# Altium integrated library Linear Technology Power Management Hot Swap Controllers.IntLib: 992 symbols (part 43 of 93)
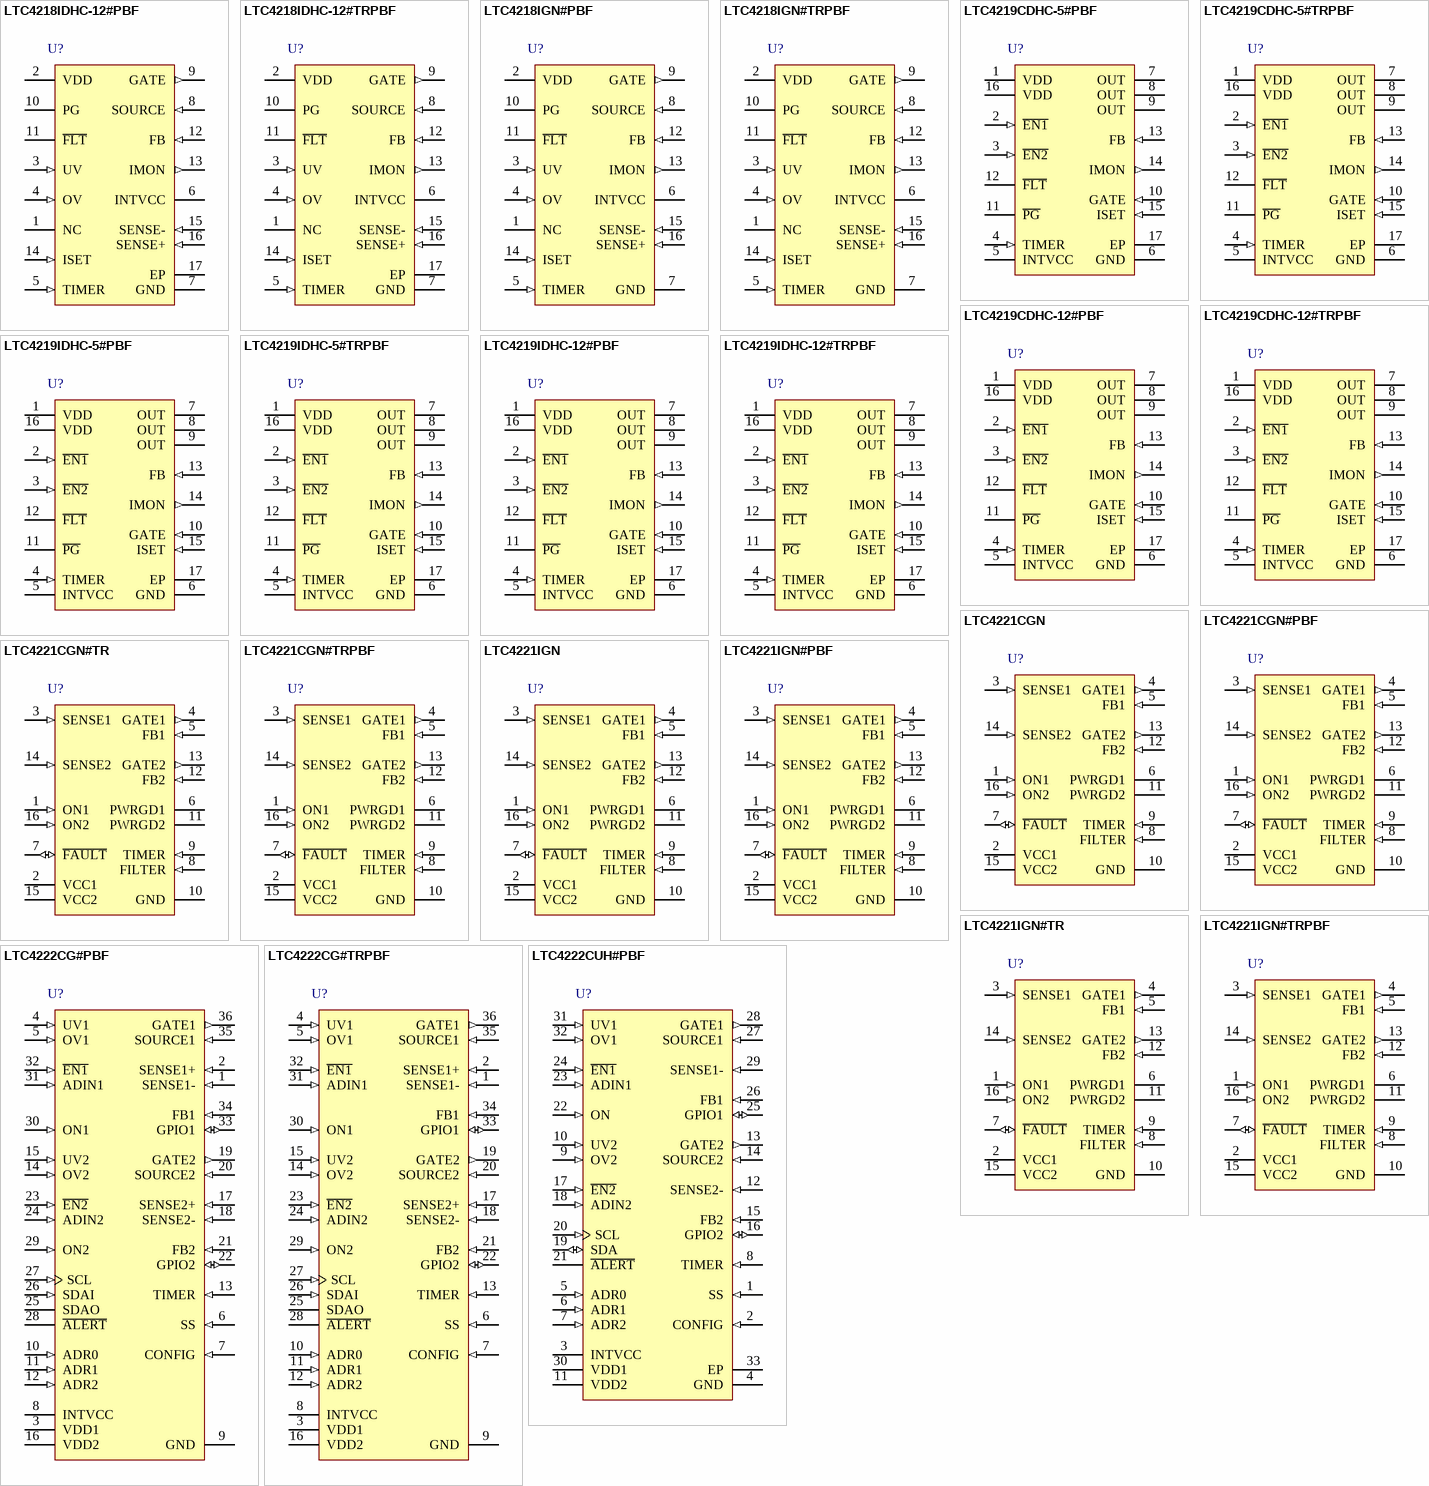
[diagram p79: symbols LTC4218IDHC-12#PBF to LTC4222CUH#PBF]

## LTC4221CGN
designator U?
Dual Hot Swap Controller / Power Sequencer with Dual Speed, Dual Level Fault Protection, 1 to 13.5 V, 2.7 to 13.5 V Vin, 16-pin SOP (GN-16), 0 to 70 degC; Manufacturer: Linear Technology; PartNumber: LTC4221CGN; Active Limiting: yes; Circuit Breaker Accuracy(%): 18; Circuit Breaker Threshold: 25 mV; Circuit Breakers(#): 2; Extended Temp: C, I; Foldback: no; In-Rush Current: Active; Vin Range: (1) 1 to 13.5 V, (2) 2.7 to 13.5 V; DatasheetVersion: Rev. A; PackageVersion: Rev. B, 03/2012; PackageReference: GN-16; PackageDescription: 16-Pin Plastic SSOP, Body 4.9 x 3.9 mm, Pitch 0.635 mm; Supplier 1: Digi-Key; Supplier Part Number 1: LTC4221CGN-ND; Fast Comparator: yes; Fault: yes; Power Good: yes; Reset: no; RoHS: FALSE; Mounting Technology: Surface Mount; ComponentLink1Description: Manufacturer URL; ComponentLink1URL: http://www.linear.com/; ComponentLink2Description: Datasheet; ComponentLink2URL: http://cds.linear.com/docs/en/datasheet/4221fa.pdf; ComponentLink3Description: Package Specification; ComponentLink3URL: http://cds.linear.com/docs/en/packaging/05081641_B_GN16.pdf
footprint LT-GN-16_N (SOP, 16-Leads, Body 5x4mm, Pitch 0.635mm, IPC Medium Density)
footprint LT-GN-16_L (SOP, 16-Leads, Body 5x4mm, Pitch 0.635mm, IPC High Density)
footprint LT-GN-16_M (SOP, 16-Leads, Body 5x4mm, Pitch 0.635mm, IPC Low Density)
pins: 1 ON1 (in) "System/Channel 1 On Input. Both GATE pins are pulled low by internal 100uA pull-downs and the F\A\U\L\T\ latch is reset when VON1 < 0.4V. When 0.425V < VON1 < 0.821V, the F\A\U\L\T\ latch is released from reset. When VON1 > (See Datasheet)", 2 VCC1 (power) "Channel 1 Positive Supply Input. It powers all the internal circuitry. VCC1 can range from 2.7V to 13.5V for normal operation but it must be >=VCC2. An undervoltage lockout circuit disables both channels whenever the voltage (See Datasheet)", 3 SENSE1 (in) "Channel 1 Current Sense Input. A sense resistor RSENSE1 is placed in the supply path between VCC1 and SENSE1 to sense channel 1 load current. If VRSENSE1 exceeds 100mV for more than 1us or 25mV for an adjustable time (set by (See Datasheet)", 4 GATE1 (out) "Channel 1 Gate Drive. This pin is the high side gate drive of an external N-channel MOSFET. When VON1 < 0.821V, GATE1 is held low by a 100uA current source. When VON1 > 0.851V, an initial timing cycle is followed by a (See Datasheet)", 5 FB1 (in) "VOUT1 Feedback Input. FB1 monitors the channel 1 output voltage with an external resistive divider. When VFB1 < 0.617V, the PWRGD1 pin is pulled low. When VFB1 > 0.822V, overvoltage is detected, the F\A\U\L\T\ latch is set (See Datasheet)", 6 PWRGD1 (oc) "Channel 1 Power Good Output. PWRGD1 is pulled low when VFB1 < 0.617V, during the initial timing cycle or when the chip is in UVLO. An external pull-up is required to generate a logic high at the open-drain PWRGD1 pin.", 7 ~{FAULT} (io) "F\A\U\L\T\ Status Input/Output. F\A\U\L\T\ is a bidirectional pin. As an input, pulsing VF\A\U\L\T\ < 0.816V will set the F\A\U\L\T\ latch and bring the LTC4221 into the F\A\U\L\T\ state. As an output, F\A\U\L\T\ is pulled (See Datasheet)", 8 FILTER (in) "Overcurrent F\A\U\L\T\ Timing Filter. The FILTER pin requires an external capacitor to ground to adjust the response time of the two slow comparators. The FILTER pin can be left unconnected for a deF\A\U\L\T\ slow comparator (See Datasheet)", 9 TIMER (in) "Analog System Timer. The TIMER pin requires an external capacitor to ground to generate timing delay cycles during start-up. The LTC4221's initial and start-up timing cycles are controlled by CTIMER and the interna(See Datasheet)", 10 GND (power) "Ground. Connect to a ground plane for optimum performance.", 11 PWRGD2 (oc) "Channel 2 Power Good Output. Similar functionality as PWRGD1. Controlled by FB2.", 12 FB2 (in) "VOUT2 Feedback Input. Similar functionality as FB1. Monitors channel 2 output voltage, controls PWRGD2 output and channel 2 start-up current limit.", 13 GATE2 (out) "Channel 2 Gate Drive. Similar functionality as GATE1. Controls the gate drive of the channel 2 external N-channel MOSFET. ON2 controls GATE2 in the same manner as ON1 controls GATE1. VON1 < 0.4V overrides conditions at ON2 (See Datasheet)", 14 SENSE2 (in) "Channel 2 Current Sense Input. Similar functionality as SENSE1. Monitors channel 2 load current through RSENSE2 placed in the supply path between VCC2 and SENSE2. To disable the current limit and circuit breaker function for (See Datasheet)", 15 VCC2 (power) "Channel 2 Positive Supply Input. VCC2 can range from 1V to 13.5V for normal operation but it must be =<VCC1. An undervoltage lockout circuit disables both channels whenever the voltage at VCC2 is less than 0.8V", 16 ON2 (in) "Channel 2 On Input. GATE2 is pulled to ground by a 100uA current source when VON2 < 0.821V. When VON2 > 0.851V, GATE2 ramps up after an initial timing cycle."

## LTC4221CGN#PBF
designator U?
Dual Hot Swap Controller / Power Sequencer with Dual Speed, Dual Level Fault Protection, 1 to 13.5 V, 2.7 to 13.5 V Vin, 16-pin SOP (GN-16), 0 to 70 degC, Pb-Free; Manufacturer: Linear Technology; PartNumber: LTC4221CGN#PBF; Active Limiting: yes; Circuit Breaker Accuracy(%): 18; Circuit Breaker Threshold: 25 mV; Circuit Breakers(#): 2; Extended Temp: C, I; Foldback: no; In-Rush Current: Active; Vin Range: (1) 1 to 13.5 V, (2) 2.7 to 13.5 V; DatasheetVersion: Rev. A; PackageVersion: Rev. B, 03/2012; PackageReference: GN-16; PackageDescription: 16-Pin Plastic SSOP, Body 4.9 x 3.9 mm, Pitch 0.635 mm; Supplier 1: Digi-Key; Supplier Part Number 1: LTC4221CGN#PBF-ND; Fast Comparator: yes; Fault: yes; Power Good: yes; Reset: no; RoHS: TRUE; Mounting Technology: Surface Mount; ComponentLink1Description: Manufacturer URL; ComponentLink1URL: http://www.linear.com/; ComponentLink2Description: Datasheet; ComponentLink2URL: http://cds.linear.com/docs/en/datasheet/4221fa.pdf; ComponentLink3Description: Package Specification; ComponentLink3URL: http://cds.linear.com/docs/en/packaging/05081641_B_GN16.pdf
footprint LT-GN-16_N (SOP, 16-Leads, Body 5x4mm, Pitch 0.635mm, IPC Medium Density)
footprint LT-GN-16_L (SOP, 16-Leads, Body 5x4mm, Pitch 0.635mm, IPC High Density)
footprint LT-GN-16_M (SOP, 16-Leads, Body 5x4mm, Pitch 0.635mm, IPC Low Density)
pins: 1 ON1 (in) "System/Channel 1 On Input. Both GATE pins are pulled low by internal 100uA pull-downs and the F\A\U\L\T\ latch is reset when VON1 < 0.4V. When 0.425V < VON1 < 0.821V, the F\A\U\L\T\ latch is released from reset. When VON1 > (See Datasheet)", 2 VCC1 (power) "Channel 1 Positive Supply Input. It powers all the internal circuitry. VCC1 can range from 2.7V to 13.5V for normal operation but it must be >=VCC2. An undervoltage lockout circuit disables both channels whenever the voltage (See Datasheet)", 3 SENSE1 (in) "Channel 1 Current Sense Input. A sense resistor RSENSE1 is placed in the supply path between VCC1 and SENSE1 to sense channel 1 load current. If VRSENSE1 exceeds 100mV for more than 1us or 25mV for an adjustable time (set by (See Datasheet)", 4 GATE1 (out) "Channel 1 Gate Drive. This pin is the high side gate drive of an external N-channel MOSFET. When VON1 < 0.821V, GATE1 is held low by a 100uA current source. When VON1 > 0.851V, an initial timing cycle is followed by a (See Datasheet)", 5 FB1 (in) "VOUT1 Feedback Input. FB1 monitors the channel 1 output voltage with an external resistive divider. When VFB1 < 0.617V, the PWRGD1 pin is pulled low. When VFB1 > 0.822V, overvoltage is detected, the F\A\U\L\T\ latch is set (See Datasheet)", 6 PWRGD1 (oc) "Channel 1 Power Good Output. PWRGD1 is pulled low when VFB1 < 0.617V, during the initial timing cycle or when the chip is in UVLO. An external pull-up is required to generate a logic high at the open-drain PWRGD1 pin.", 7 ~{FAULT} (io) "F\A\U\L\T\ Status Input/Output. F\A\U\L\T\ is a bidirectional pin. As an input, pulsing VF\A\U\L\T\ < 0.816V will set the F\A\U\L\T\ latch and bring the LTC4221 into the F\A\U\L\T\ state. As an output, F\A\U\L\T\ is pulled (See Datasheet)", 8 FILTER (in) "Overcurrent F\A\U\L\T\ Timing Filter. The FILTER pin requires an external capacitor to ground to adjust the response time of the two slow comparators. The FILTER pin can be left unconnected for a deF\A\U\L\T\ slow comparator (See Datasheet)", 9 TIMER (in) "Analog System Timer. The TIMER pin requires an external capacitor to ground to generate timing delay cycles during start-up. The LTC4221's initial and start-up timing cycles are controlled by CTIMER and the interna(See Datasheet)", 10 GND (power) "Ground. Connect to a ground plane for optimum performance.", 11 PWRGD2 (oc) "Channel 2 Power Good Output. Similar functionality as PWRGD1. Controlled by FB2.", 12 FB2 (in) "VOUT2 Feedback Input. Similar functionality as FB1. Monitors channel 2 output voltage, controls PWRGD2 output and channel 2 start-up current limit.", 13 GATE2 (out) "Channel 2 Gate Drive. Similar functionality as GATE1. Controls the gate drive of the channel 2 external N-channel MOSFET. ON2 controls GATE2 in the same manner as ON1 controls GATE1. VON1 < 0.4V overrides conditions at ON2 (See Datasheet)", 14 SENSE2 (in) "Channel 2 Current Sense Input. Similar functionality as SENSE1. Monitors channel 2 load current through RSENSE2 placed in the supply path between VCC2 and SENSE2. To disable the current limit and circuit breaker function for (See Datasheet)", 15 VCC2 (power) "Channel 2 Positive Supply Input. VCC2 can range from 1V to 13.5V for normal operation but it must be =<VCC1. An undervoltage lockout circuit disables both channels whenever the voltage at VCC2 is less than 0.8V", 16 ON2 (in) "Channel 2 On Input. GATE2 is pulled to ground by a 100uA current source when VON2 < 0.821V. When VON2 > 0.851V, GATE2 ramps up after an initial timing cycle."

## LTC4221CGN#TR
designator U?
Dual Hot Swap Controller / Power Sequencer with Dual Speed, Dual Level Fault Protection, 1 to 13.5 V, 2.7 to 13.5 V Vin, 16-pin SOP (GN-16), 0 to 70 degC, Tape and Reel; Manufacturer: Linear Technology; PartNumber: LTC4221CGN#TR; Active Limiting: yes; Circuit Breaker Accuracy(%): 18; Circuit Breaker Threshold: 25 mV; Circuit Breakers(#): 2; Extended Temp: C, I; Foldback: no; In-Rush Current: Active; Vin Range: (1) 1 to 13.5 V, (2) 2.7 to 13.5 V; DatasheetVersion: Rev. A; PackageVersion: Rev. B, 03/2012; PackageReference: GN-16; PackageDescription: 16-Pin Plastic SSOP, Body 4.9 x 3.9 mm, Pitch 0.635 mm; Supplier 1: Digi-Key; Supplier Part Number 1: LTC4221CGN#TR-ND; Fast Comparator: yes; Fault: yes; Packing: Tape and Reel; Power Good: yes; Reset: no; RoHS: FALSE; Mounting Technology: Surface Mount; ComponentLink1Description: Manufacturer URL; ComponentLink1URL: http://www.linear.com/; ComponentLink2Description: Datasheet; ComponentLink2URL: http://cds.linear.com/docs/en/datasheet/4221fa.pdf; ComponentLink3Description: Package Specification; ComponentLink3URL: http://cds.linear.com/docs/en/packaging/05081641_B_GN16.pdf
footprint LT-GN-16_N (SOP, 16-Leads, Body 5x4mm, Pitch 0.635mm, IPC Medium Density)
footprint LT-GN-16_L (SOP, 16-Leads, Body 5x4mm, Pitch 0.635mm, IPC High Density)
footprint LT-GN-16_M (SOP, 16-Leads, Body 5x4mm, Pitch 0.635mm, IPC Low Density)
pins: 1 ON1 (in) "System/Channel 1 On Input. Both GATE pins are pulled low by internal 100uA pull-downs and the F\A\U\L\T\ latch is reset when VON1 < 0.4V. When 0.425V < VON1 < 0.821V, the F\A\U\L\T\ latch is released from reset. When VON1 > (See Datasheet)", 2 VCC1 (power) "Channel 1 Positive Supply Input. It powers all the internal circuitry. VCC1 can range from 2.7V to 13.5V for normal operation but it must be >=VCC2. An undervoltage lockout circuit disables both channels whenever the voltage (See Datasheet)", 3 SENSE1 (in) "Channel 1 Current Sense Input. A sense resistor RSENSE1 is placed in the supply path between VCC1 and SENSE1 to sense channel 1 load current. If VRSENSE1 exceeds 100mV for more than 1us or 25mV for an adjustable time (set by (See Datasheet)", 4 GATE1 (out) "Channel 1 Gate Drive. This pin is the high side gate drive of an external N-channel MOSFET. When VON1 < 0.821V, GATE1 is held low by a 100uA current source. When VON1 > 0.851V, an initial timing cycle is followed by a (See Datasheet)", 5 FB1 (in) "VOUT1 Feedback Input. FB1 monitors the channel 1 output voltage with an external resistive divider. When VFB1 < 0.617V, the PWRGD1 pin is pulled low. When VFB1 > 0.822V, overvoltage is detected, the F\A\U\L\T\ latch is set (See Datasheet)", 6 PWRGD1 (oc) "Channel 1 Power Good Output. PWRGD1 is pulled low when VFB1 < 0.617V, during the initial timing cycle or when the chip is in UVLO. An external pull-up is required to generate a logic high at the open-drain PWRGD1 pin.", 7 ~{FAULT} (io) "F\A\U\L\T\ Status Input/Output. F\A\U\L\T\ is a bidirectional pin. As an input, pulsing VF\A\U\L\T\ < 0.816V will set the F\A\U\L\T\ latch and bring the LTC4221 into the F\A\U\L\T\ state. As an output, F\A\U\L\T\ is pulled (See Datasheet)", 8 FILTER (in) "Overcurrent F\A\U\L\T\ Timing Filter. The FILTER pin requires an external capacitor to ground to adjust the response time of the two slow comparators. The FILTER pin can be left unconnected for a deF\A\U\L\T\ slow comparator (See Datasheet)", 9 TIMER (in) "Analog System Timer. The TIMER pin requires an external capacitor to ground to generate timing delay cycles during start-up. The LTC4221's initial and start-up timing cycles are controlled by CTIMER and the interna(See Datasheet)", 10 GND (power) "Ground. Connect to a ground plane for optimum performance.", 11 PWRGD2 (oc) "Channel 2 Power Good Output. Similar functionality as PWRGD1. Controlled by FB2.", 12 FB2 (in) "VOUT2 Feedback Input. Similar functionality as FB1. Monitors channel 2 output voltage, controls PWRGD2 output and channel 2 start-up current limit.", 13 GATE2 (out) "Channel 2 Gate Drive. Similar functionality as GATE1. Controls the gate drive of the channel 2 external N-channel MOSFET. ON2 controls GATE2 in the same manner as ON1 controls GATE1. VON1 < 0.4V overrides conditions at ON2 (See Datasheet)", 14 SENSE2 (in) "Channel 2 Current Sense Input. Similar functionality as SENSE1. Monitors channel 2 load current through RSENSE2 placed in the supply path between VCC2 and SENSE2. To disable the current limit and circuit breaker function for (See Datasheet)", 15 VCC2 (power) "Channel 2 Positive Supply Input. VCC2 can range from 1V to 13.5V for normal operation but it must be =<VCC1. An undervoltage lockout circuit disables both channels whenever the voltage at VCC2 is less than 0.8V", 16 ON2 (in) "Channel 2 On Input. GATE2 is pulled to ground by a 100uA current source when VON2 < 0.821V. When VON2 > 0.851V, GATE2 ramps up after an initial timing cycle."

## LTC4221CGN#TRPBF
designator U?
Dual Hot Swap Controller / Power Sequencer with Dual Speed, Dual Level Fault Protection, 1 to 13.5 V, 2.7 to 13.5 V Vin, 16-pin SOP (GN-16), 0 to 70 degC, Pb-Free, Tape and Reel; Manufacturer: Linear Technology; PartNumber: LTC4221CGN#TRPBF; Active Limiting: yes; Circuit Breaker Accuracy(%): 18; Circuit Breaker Threshold: 25 mV; Circuit Breakers(#): 2; Extended Temp: C, I; Foldback: no; In-Rush Current: Active; Vin Range: (1) 1 to 13.5 V, (2) 2.7 to 13.5 V; DatasheetVersion: Rev. A; PackageVersion: Rev. B, 03/2012; PackageReference: GN-16; PackageDescription: 16-Pin Plastic SSOP, Body 4.9 x 3.9 mm, Pitch 0.635 mm; Supplier 1: Digi-Key; Supplier Part Number 1: LTC4221CGN#TRPBF-ND; Fast Comparator: yes; Fault: yes; Packing: Tape and Reel; Power Good: yes; Reset: no; RoHS: TRUE; Mounting Technology: Surface Mount; ComponentLink1Description: Manufacturer URL; ComponentLink1URL: http://www.linear.com/; ComponentLink2Description: Datasheet; ComponentLink2URL: http://cds.linear.com/docs/en/datasheet/4221fa.pdf; ComponentLink3Description: Package Specification; ComponentLink3URL: http://cds.linear.com/docs/en/packaging/05081641_B_GN16.pdf
footprint LT-GN-16_N (SOP, 16-Leads, Body 5x4mm, Pitch 0.635mm, IPC Medium Density)
footprint LT-GN-16_L (SOP, 16-Leads, Body 5x4mm, Pitch 0.635mm, IPC High Density)
footprint LT-GN-16_M (SOP, 16-Leads, Body 5x4mm, Pitch 0.635mm, IPC Low Density)
pins: 1 ON1 (in) "System/Channel 1 On Input. Both GATE pins are pulled low by internal 100uA pull-downs and the F\A\U\L\T\ latch is reset when VON1 < 0.4V. When 0.425V < VON1 < 0.821V, the F\A\U\L\T\ latch is released from reset. When VON1 > (See Datasheet)", 2 VCC1 (power) "Channel 1 Positive Supply Input. It powers all the internal circuitry. VCC1 can range from 2.7V to 13.5V for normal operation but it must be >=VCC2. An undervoltage lockout circuit disables both channels whenever the voltage (See Datasheet)", 3 SENSE1 (in) "Channel 1 Current Sense Input. A sense resistor RSENSE1 is placed in the supply path between VCC1 and SENSE1 to sense channel 1 load current. If VRSENSE1 exceeds 100mV for more than 1us or 25mV for an adjustable time (set by (See Datasheet)", 4 GATE1 (out) "Channel 1 Gate Drive. This pin is the high side gate drive of an external N-channel MOSFET. When VON1 < 0.821V, GATE1 is held low by a 100uA current source. When VON1 > 0.851V, an initial timing cycle is followed by a (See Datasheet)", 5 FB1 (in) "VOUT1 Feedback Input. FB1 monitors the channel 1 output voltage with an external resistive divider. When VFB1 < 0.617V, the PWRGD1 pin is pulled low. When VFB1 > 0.822V, overvoltage is detected, the F\A\U\L\T\ latch is set (See Datasheet)", 6 PWRGD1 (oc) "Channel 1 Power Good Output. PWRGD1 is pulled low when VFB1 < 0.617V, during the initial timing cycle or when the chip is in UVLO. An external pull-up is required to generate a logic high at the open-drain PWRGD1 pin.", 7 ~{FAULT} (io) "F\A\U\L\T\ Status Input/Output. F\A\U\L\T\ is a bidirectional pin. As an input, pulsing VF\A\U\L\T\ < 0.816V will set the F\A\U\L\T\ latch and bring the LTC4221 into the F\A\U\L\T\ state. As an output, F\A\U\L\T\ is pulled (See Datasheet)", 8 FILTER (in) "Overcurrent F\A\U\L\T\ Timing Filter. The FILTER pin requires an external capacitor to ground to adjust the response time of the two slow comparators. The FILTER pin can be left unconnected for a deF\A\U\L\T\ slow comparator (See Datasheet)", 9 TIMER (in) "Analog System Timer. The TIMER pin requires an external capacitor to ground to generate timing delay cycles during start-up. The LTC4221's initial and start-up timing cycles are controlled by CTIMER and the interna(See Datasheet)", 10 GND (power) "Ground. Connect to a ground plane for optimum performance.", 11 PWRGD2 (oc) "Channel 2 Power Good Output. Similar functionality as PWRGD1. Controlled by FB2.", 12 FB2 (in) "VOUT2 Feedback Input. Similar functionality as FB1. Monitors channel 2 output voltage, controls PWRGD2 output and channel 2 start-up current limit.", 13 GATE2 (out) "Channel 2 Gate Drive. Similar functionality as GATE1. Controls the gate drive of the channel 2 external N-channel MOSFET. ON2 controls GATE2 in the same manner as ON1 controls GATE1. VON1 < 0.4V overrides conditions at ON2 (See Datasheet)", 14 SENSE2 (in) "Channel 2 Current Sense Input. Similar functionality as SENSE1. Monitors channel 2 load current through RSENSE2 placed in the supply path between VCC2 and SENSE2. To disable the current limit and circuit breaker function for (See Datasheet)", 15 VCC2 (power) "Channel 2 Positive Supply Input. VCC2 can range from 1V to 13.5V for normal operation but it must be =<VCC1. An undervoltage lockout circuit disables both channels whenever the voltage at VCC2 is less than 0.8V", 16 ON2 (in) "Channel 2 On Input. GATE2 is pulled to ground by a 100uA current source when VON2 < 0.821V. When VON2 > 0.851V, GATE2 ramps up after an initial timing cycle."

## LTC4221IGN
designator U?
Dual Hot Swap Controller / Power Sequencer with Dual Speed, Dual Level Fault Protection, 1 to 13.5 V, 2.7 to 13.5 V Vin, 16-pin SOP (GN-16), -40 to 85 degC; Manufacturer: Linear Technology; PartNumber: LTC4221IGN; Active Limiting: yes; Circuit Breaker Accuracy(%): 18; Circuit Breaker Threshold: 25 mV; Circuit Breakers(#): 2; Extended Temp: C, I; Foldback: no; In-Rush Current: Active; Vin Range: (1) 1 to 13.5 V, (2) 2.7 to 13.5 V; DatasheetVersion: Rev. A; PackageVersion: Rev. B, 03/2012; PackageReference: GN-16; PackageDescription: 16-Pin Plastic SSOP, Body 4.9 x 3.9 mm, Pitch 0.635 mm; Supplier 1: Digi-Key; Supplier Part Number 1: LTC4221IGN-ND; Fast Comparator: yes; Fault: yes; Power Good: yes; Reset: no; RoHS: FALSE; Mounting Technology: Surface Mount; ComponentLink1Description: Manufacturer URL; ComponentLink1URL: http://www.linear.com/; ComponentLink2Description: Datasheet; ComponentLink2URL: http://cds.linear.com/docs/en/datasheet/4221fa.pdf; ComponentLink3Description: Package Specification; ComponentLink3URL: http://cds.linear.com/docs/en/packaging/05081641_B_GN16.pdf
footprint LT-GN-16_N (SOP, 16-Leads, Body 5x4mm, Pitch 0.635mm, IPC Medium Density)
footprint LT-GN-16_L (SOP, 16-Leads, Body 5x4mm, Pitch 0.635mm, IPC High Density)
footprint LT-GN-16_M (SOP, 16-Leads, Body 5x4mm, Pitch 0.635mm, IPC Low Density)
pins: 1 ON1 (in) "System/Channel 1 On Input. Both GATE pins are pulled low by internal 100uA pull-downs and the F\A\U\L\T\ latch is reset when VON1 < 0.4V. When 0.425V < VON1 < 0.821V, the F\A\U\L\T\ latch is released from reset. When VON1 > (See Datasheet)", 2 VCC1 (power) "Channel 1 Positive Supply Input. It powers all the internal circuitry. VCC1 can range from 2.7V to 13.5V for normal operation but it must be >=VCC2. An undervoltage lockout circuit disables both channels whenever the voltage (See Datasheet)", 3 SENSE1 (in) "Channel 1 Current Sense Input. A sense resistor RSENSE1 is placed in the supply path between VCC1 and SENSE1 to sense channel 1 load current. If VRSENSE1 exceeds 100mV for more than 1us or 25mV for an adjustable time (set by (See Datasheet)", 4 GATE1 (out) "Channel 1 Gate Drive. This pin is the high side gate drive of an external N-channel MOSFET. When VON1 < 0.821V, GATE1 is held low by a 100uA current source. When VON1 > 0.851V, an initial timing cycle is followed by a (See Datasheet)", 5 FB1 (in) "VOUT1 Feedback Input. FB1 monitors the channel 1 output voltage with an external resistive divider. When VFB1 < 0.617V, the PWRGD1 pin is pulled low. When VFB1 > 0.822V, overvoltage is detected, the F\A\U\L\T\ latch is set (See Datasheet)", 6 PWRGD1 (oc) "Channel 1 Power Good Output. PWRGD1 is pulled low when VFB1 < 0.617V, during the initial timing cycle or when the chip is in UVLO. An external pull-up is required to generate a logic high at the open-drain PWRGD1 pin.", 7 ~{FAULT} (io) "F\A\U\L\T\ Status Input/Output. F\A\U\L\T\ is a bidirectional pin. As an input, pulsing VF\A\U\L\T\ < 0.816V will set the F\A\U\L\T\ latch and bring the LTC4221 into the F\A\U\L\T\ state. As an output, F\A\U\L\T\ is pulled (See Datasheet)", 8 FILTER (in) "Overcurrent F\A\U\L\T\ Timing Filter. The FILTER pin requires an external capacitor to ground to adjust the response time of the two slow comparators. The FILTER pin can be left unconnected for a deF\A\U\L\T\ slow comparator (See Datasheet)", 9 TIMER (in) "Analog System Timer. The TIMER pin requires an external capacitor to ground to generate timing delay cycles during start-up. The LTC4221's initial and start-up timing cycles are controlled by CTIMER and the interna(See Datasheet)", 10 GND (power) "Ground. Connect to a ground plane for optimum performance.", 11 PWRGD2 (oc) "Channel 2 Power Good Output. Similar functionality as PWRGD1. Controlled by FB2.", 12 FB2 (in) "VOUT2 Feedback Input. Similar functionality as FB1. Monitors channel 2 output voltage, controls PWRGD2 output and channel 2 start-up current limit.", 13 GATE2 (out) "Channel 2 Gate Drive. Similar functionality as GATE1. Controls the gate drive of the channel 2 external N-channel MOSFET. ON2 controls GATE2 in the same manner as ON1 controls GATE1. VON1 < 0.4V overrides conditions at ON2 (See Datasheet)", 14 SENSE2 (in) "Channel 2 Current Sense Input. Similar functionality as SENSE1. Monitors channel 2 load current through RSENSE2 placed in the supply path between VCC2 and SENSE2. To disable the current limit and circuit breaker function for (See Datasheet)", 15 VCC2 (power) "Channel 2 Positive Supply Input. VCC2 can range from 1V to 13.5V for normal operation but it must be =<VCC1. An undervoltage lockout circuit disables both channels whenever the voltage at VCC2 is less than 0.8V", 16 ON2 (in) "Channel 2 On Input. GATE2 is pulled to ground by a 100uA current source when VON2 < 0.821V. When VON2 > 0.851V, GATE2 ramps up after an initial timing cycle."

## LTC4221IGN#PBF
designator U?
Dual Hot Swap Controller / Power Sequencer with Dual Speed, Dual Level Fault Protection, 1 to 13.5 V, 2.7 to 13.5 V Vin, 16-pin SOP (GN-16), -40 to 85 degC, Pb-Free; Manufacturer: Linear Technology; PartNumber: LTC4221IGN#PBF; Active Limiting: yes; Circuit Breaker Accuracy(%): 18; Circuit Breaker Threshold: 25 mV; Circuit Breakers(#): 2; Extended Temp: C, I; Foldback: no; In-Rush Current: Active; Vin Range: (1) 1 to 13.5 V, (2) 2.7 to 13.5 V; DatasheetVersion: Rev. A; PackageVersion: Rev. B, 03/2012; PackageReference: GN-16; PackageDescription: 16-Pin Plastic SSOP, Body 4.9 x 3.9 mm, Pitch 0.635 mm; Supplier 1: Digi-Key; Supplier Part Number 1: LTC4221IGN#PBF-ND; Supplier 2: Newark; Supplier Part Number 2: 56M8860; Fast Comparator: yes; Fault: yes; Power Good: yes; Reset: no; RoHS: TRUE; Mounting Technology: Surface Mount; ComponentLink1Description: Manufacturer URL; ComponentLink1URL: http://www.linear.com/; ComponentLink2Description: Datasheet; ComponentLink2URL: http://cds.linear.com/docs/en/datasheet/4221fa.pdf; ComponentLink3Description: Package Specification; ComponentLink3URL: http://cds.linear.com/docs/en/packaging/05081641_B_GN16.pdf
footprint LT-GN-16_N (SOP, 16-Leads, Body 5x4mm, Pitch 0.635mm, IPC Medium Density)
footprint LT-GN-16_L (SOP, 16-Leads, Body 5x4mm, Pitch 0.635mm, IPC High Density)
footprint LT-GN-16_M (SOP, 16-Leads, Body 5x4mm, Pitch 0.635mm, IPC Low Density)
pins: 1 ON1 (in) "System/Channel 1 On Input. Both GATE pins are pulled low by internal 100uA pull-downs and the F\A\U\L\T\ latch is reset when VON1 < 0.4V. When 0.425V < VON1 < 0.821V, the F\A\U\L\T\ latch is released from reset. When VON1 > (See Datasheet)", 2 VCC1 (power) "Channel 1 Positive Supply Input. It powers all the internal circuitry. VCC1 can range from 2.7V to 13.5V for normal operation but it must be >=VCC2. An undervoltage lockout circuit disables both channels whenever the voltage (See Datasheet)", 3 SENSE1 (in) "Channel 1 Current Sense Input. A sense resistor RSENSE1 is placed in the supply path between VCC1 and SENSE1 to sense channel 1 load current. If VRSENSE1 exceeds 100mV for more than 1us or 25mV for an adjustable time (set by (See Datasheet)", 4 GATE1 (out) "Channel 1 Gate Drive. This pin is the high side gate drive of an external N-channel MOSFET. When VON1 < 0.821V, GATE1 is held low by a 100uA current source. When VON1 > 0.851V, an initial timing cycle is followed by a (See Datasheet)", 5 FB1 (in) "VOUT1 Feedback Input. FB1 monitors the channel 1 output voltage with an external resistive divider. When VFB1 < 0.617V, the PWRGD1 pin is pulled low. When VFB1 > 0.822V, overvoltage is detected, the F\A\U\L\T\ latch is set (See Datasheet)", 6 PWRGD1 (oc) "Channel 1 Power Good Output. PWRGD1 is pulled low when VFB1 < 0.617V, during the initial timing cycle or when the chip is in UVLO. An external pull-up is required to generate a logic high at the open-drain PWRGD1 pin.", 7 ~{FAULT} (io) "F\A\U\L\T\ Status Input/Output. F\A\U\L\T\ is a bidirectional pin. As an input, pulsing VF\A\U\L\T\ < 0.816V will set the F\A\U\L\T\ latch and bring the LTC4221 into the F\A\U\L\T\ state. As an output, F\A\U\L\T\ is pulled (See Datasheet)", 8 FILTER (in) "Overcurrent F\A\U\L\T\ Timing Filter. The FILTER pin requires an external capacitor to ground to adjust the response time of the two slow comparators. The FILTER pin can be left unconnected for a deF\A\U\L\T\ slow comparator (See Datasheet)", 9 TIMER (in) "Analog System Timer. The TIMER pin requires an external capacitor to ground to generate timing delay cycles during start-up. The LTC4221's initial and start-up timing cycles are controlled by CTIMER and the interna(See Datasheet)", 10 GND (power) "Ground. Connect to a ground plane for optimum performance.", 11 PWRGD2 (oc) "Channel 2 Power Good Output. Similar functionality as PWRGD1. Controlled by FB2.", 12 FB2 (in) "VOUT2 Feedback Input. Similar functionality as FB1. Monitors channel 2 output voltage, controls PWRGD2 output and channel 2 start-up current limit.", 13 GATE2 (out) "Channel 2 Gate Drive. Similar functionality as GATE1. Controls the gate drive of the channel 2 external N-channel MOSFET. ON2 controls GATE2 in the same manner as ON1 controls GATE1. VON1 < 0.4V overrides conditions at ON2 (See Datasheet)", 14 SENSE2 (in) "Channel 2 Current Sense Input. Similar functionality as SENSE1. Monitors channel 2 load current through RSENSE2 placed in the supply path between VCC2 and SENSE2. To disable the current limit and circuit breaker function for (See Datasheet)", 15 VCC2 (power) "Channel 2 Positive Supply Input. VCC2 can range from 1V to 13.5V for normal operation but it must be =<VCC1. An undervoltage lockout circuit disables both channels whenever the voltage at VCC2 is less than 0.8V", 16 ON2 (in) "Channel 2 On Input. GATE2 is pulled to ground by a 100uA current source when VON2 < 0.821V. When VON2 > 0.851V, GATE2 ramps up after an initial timing cycle."

## LTC4221IGN#TR
designator U?
Dual Hot Swap Controller / Power Sequencer with Dual Speed, Dual Level Fault Protection, 1 to 13.5 V, 2.7 to 13.5 V Vin, 16-pin SOP (GN-16), -40 to 85 degC, Tape and Reel; Manufacturer: Linear Technology; PartNumber: LTC4221IGN#TR; Active Limiting: yes; Circuit Breaker Accuracy(%): 18; Circuit Breaker Threshold: 25 mV; Circuit Breakers(#): 2; Extended Temp: C, I; Foldback: no; In-Rush Current: Active; Vin Range: (1) 1 to 13.5 V, (2) 2.7 to 13.5 V; DatasheetVersion: Rev. A; PackageVersion: Rev. B, 03/2012; PackageReference: GN-16; PackageDescription: 16-Pin Plastic SSOP, Body 4.9 x 3.9 mm, Pitch 0.635 mm; Supplier 1: Digi-Key; Supplier Part Number 1: LTC4221IGN#TR-ND; Fast Comparator: yes; Fault: yes; Packing: Tape and Reel; Power Good: yes; Reset: no; RoHS: FALSE; Mounting Technology: Surface Mount; ComponentLink1Description: Manufacturer URL; ComponentLink1URL: http://www.linear.com/; ComponentLink2Description: Datasheet; ComponentLink2URL: http://cds.linear.com/docs/en/datasheet/4221fa.pdf; ComponentLink3Description: Package Specification; ComponentLink3URL: http://cds.linear.com/docs/en/packaging/05081641_B_GN16.pdf
footprint LT-GN-16_N (SOP, 16-Leads, Body 5x4mm, Pitch 0.635mm, IPC Medium Density)
footprint LT-GN-16_L (SOP, 16-Leads, Body 5x4mm, Pitch 0.635mm, IPC High Density)
footprint LT-GN-16_M (SOP, 16-Leads, Body 5x4mm, Pitch 0.635mm, IPC Low Density)
pins: 1 ON1 (in) "System/Channel 1 On Input. Both GATE pins are pulled low by internal 100uA pull-downs and the F\A\U\L\T\ latch is reset when VON1 < 0.4V. When 0.425V < VON1 < 0.821V, the F\A\U\L\T\ latch is released from reset. When VON1 > (See Datasheet)", 2 VCC1 (power) "Channel 1 Positive Supply Input. It powers all the internal circuitry. VCC1 can range from 2.7V to 13.5V for normal operation but it must be >=VCC2. An undervoltage lockout circuit disables both channels whenever the voltage (See Datasheet)", 3 SENSE1 (in) "Channel 1 Current Sense Input. A sense resistor RSENSE1 is placed in the supply path between VCC1 and SENSE1 to sense channel 1 load current. If VRSENSE1 exceeds 100mV for more than 1us or 25mV for an adjustable time (set by (See Datasheet)", 4 GATE1 (out) "Channel 1 Gate Drive. This pin is the high side gate drive of an external N-channel MOSFET. When VON1 < 0.821V, GATE1 is held low by a 100uA current source. When VON1 > 0.851V, an initial timing cycle is followed by a (See Datasheet)", 5 FB1 (in) "VOUT1 Feedback Input. FB1 monitors the channel 1 output voltage with an external resistive divider. When VFB1 < 0.617V, the PWRGD1 pin is pulled low. When VFB1 > 0.822V, overvoltage is detected, the F\A\U\L\T\ latch is set (See Datasheet)", 6 PWRGD1 (oc) "Channel 1 Power Good Output. PWRGD1 is pulled low when VFB1 < 0.617V, during the initial timing cycle or when the chip is in UVLO. An external pull-up is required to generate a logic high at the open-drain PWRGD1 pin.", 7 ~{FAULT} (io) "F\A\U\L\T\ Status Input/Output. F\A\U\L\T\ is a bidirectional pin. As an input, pulsing VF\A\U\L\T\ < 0.816V will set the F\A\U\L\T\ latch and bring the LTC4221 into the F\A\U\L\T\ state. As an output, F\A\U\L\T\ is pulled (See Datasheet)", 8 FILTER (in) "Overcurrent F\A\U\L\T\ Timing Filter. The FILTER pin requires an external capacitor to ground to adjust the response time of the two slow comparators. The FILTER pin can be left unconnected for a deF\A\U\L\T\ slow comparator (See Datasheet)", 9 TIMER (in) "Analog System Timer. The TIMER pin requires an external capacitor to ground to generate timing delay cycles during start-up. The LTC4221's initial and start-up timing cycles are controlled by CTIMER and the interna(See Datasheet)", 10 GND (power) "Ground. Connect to a ground plane for optimum performance.", 11 PWRGD2 (oc) "Channel 2 Power Good Output. Similar functionality as PWRGD1. Controlled by FB2.", 12 FB2 (in) "VOUT2 Feedback Input. Similar functionality as FB1. Monitors channel 2 output voltage, controls PWRGD2 output and channel 2 start-up current limit.", 13 GATE2 (out) "Channel 2 Gate Drive. Similar functionality as GATE1. Controls the gate drive of the channel 2 external N-channel MOSFET. ON2 controls GATE2 in the same manner as ON1 controls GATE1. VON1 < 0.4V overrides conditions at ON2 (See Datasheet)", 14 SENSE2 (in) "Channel 2 Current Sense Input. Similar functionality as SENSE1. Monitors channel 2 load current through RSENSE2 placed in the supply path between VCC2 and SENSE2. To disable the current limit and circuit breaker function for (See Datasheet)", 15 VCC2 (power) "Channel 2 Positive Supply Input. VCC2 can range from 1V to 13.5V for normal operation but it must be =<VCC1. An undervoltage lockout circuit disables both channels whenever the voltage at VCC2 is less than 0.8V", 16 ON2 (in) "Channel 2 On Input. GATE2 is pulled to ground by a 100uA current source when VON2 < 0.821V. When VON2 > 0.851V, GATE2 ramps up after an initial timing cycle."

## LTC4221IGN#TRPBF
designator U?
Dual Hot Swap Controller / Power Sequencer with Dual Speed, Dual Level Fault Protection, 1 to 13.5 V, 2.7 to 13.5 V Vin, 16-pin SOP (GN-16), -40 to 85 degC, Pb-Free, Tape and Reel; Manufacturer: Linear Technology; PartNumber: LTC4221IGN#TRPBF; Active Limiting: yes; Circuit Breaker Accuracy(%): 18; Circuit Breaker Threshold: 25 mV; Circuit Breakers(#): 2; Extended Temp: C, I; Foldback: no; In-Rush Current: Active; Vin Range: (1) 1 to 13.5 V, (2) 2.7 to 13.5 V; DatasheetVersion: Rev. A; PackageVersion: Rev. B, 03/2012; PackageReference: GN-16; PackageDescription: 16-Pin Plastic SSOP, Body 4.9 x 3.9 mm, Pitch 0.635 mm; Supplier 1: Digi-Key; Supplier Part Number 1: LTC4221IGN#TRPBF-ND; Supplier 2: Newark; Supplier Part Number 2: 56M8862; Fast Comparator: yes; Fault: yes; Packing: Tape and Reel; Power Good: yes; Reset: no; RoHS: TRUE; Mounting Technology: Surface Mount; ComponentLink1Description: Manufacturer URL; ComponentLink1URL: http://www.linear.com/; ComponentLink2Description: Datasheet; ComponentLink2URL: http://cds.linear.com/docs/en/datasheet/4221fa.pdf; ComponentLink3Description: Package Specification; ComponentLink3URL: http://cds.linear.com/docs/en/packaging/05081641_B_GN16.pdf
footprint LT-GN-16_N (SOP, 16-Leads, Body 5x4mm, Pitch 0.635mm, IPC Medium Density)
footprint LT-GN-16_L (SOP, 16-Leads, Body 5x4mm, Pitch 0.635mm, IPC High Density)
footprint LT-GN-16_M (SOP, 16-Leads, Body 5x4mm, Pitch 0.635mm, IPC Low Density)
pins: 1 ON1 (in) "System/Channel 1 On Input. Both GATE pins are pulled low by internal 100uA pull-downs and the F\A\U\L\T\ latch is reset when VON1 < 0.4V. When 0.425V < VON1 < 0.821V, the F\A\U\L\T\ latch is released from reset. When VON1 > (See Datasheet)", 2 VCC1 (power) "Channel 1 Positive Supply Input. It powers all the internal circuitry. VCC1 can range from 2.7V to 13.5V for normal operation but it must be >=VCC2. An undervoltage lockout circuit disables both channels whenever the voltage (See Datasheet)", 3 SENSE1 (in) "Channel 1 Current Sense Input. A sense resistor RSENSE1 is placed in the supply path between VCC1 and SENSE1 to sense channel 1 load current. If VRSENSE1 exceeds 100mV for more than 1us or 25mV for an adjustable time (set by (See Datasheet)", 4 GATE1 (out) "Channel 1 Gate Drive. This pin is the high side gate drive of an external N-channel MOSFET. When VON1 < 0.821V, GATE1 is held low by a 100uA current source. When VON1 > 0.851V, an initial timing cycle is followed by a (See Datasheet)", 5 FB1 (in) "VOUT1 Feedback Input. FB1 monitors the channel 1 output voltage with an external resistive divider. When VFB1 < 0.617V, the PWRGD1 pin is pulled low. When VFB1 > 0.822V, overvoltage is detected, the F\A\U\L\T\ latch is set (See Datasheet)", 6 PWRGD1 (oc) "Channel 1 Power Good Output. PWRGD1 is pulled low when VFB1 < 0.617V, during the initial timing cycle or when the chip is in UVLO. An external pull-up is required to generate a logic high at the open-drain PWRGD1 pin.", 7 ~{FAULT} (io) "F\A\U\L\T\ Status Input/Output. F\A\U\L\T\ is a bidirectional pin. As an input, pulsing VF\A\U\L\T\ < 0.816V will set the F\A\U\L\T\ latch and bring the LTC4221 into the F\A\U\L\T\ state. As an output, F\A\U\L\T\ is pulled (See Datasheet)", 8 FILTER (in) "Overcurrent F\A\U\L\T\ Timing Filter. The FILTER pin requires an external capacitor to ground to adjust the response time of the two slow comparators. The FILTER pin can be left unconnected for a deF\A\U\L\T\ slow comparator (See Datasheet)", 9 TIMER (in) "Analog System Timer. The TIMER pin requires an external capacitor to ground to generate timing delay cycles during start-up. The LTC4221's initial and start-up timing cycles are controlled by CTIMER and the interna(See Datasheet)", 10 GND (power) "Ground. Connect to a ground plane for optimum performance.", 11 PWRGD2 (oc) "Channel 2 Power Good Output. Similar functionality as PWRGD1. Controlled by FB2.", 12 FB2 (in) "VOUT2 Feedback Input. Similar functionality as FB1. Monitors channel 2 output voltage, controls PWRGD2 output and channel 2 start-up current limit.", 13 GATE2 (out) "Channel 2 Gate Drive. Similar functionality as GATE1. Controls the gate drive of the channel 2 external N-channel MOSFET. ON2 controls GATE2 in the same manner as ON1 controls GATE1. VON1 < 0.4V overrides conditions at ON2 (See Datasheet)", 14 SENSE2 (in) "Channel 2 Current Sense Input. Similar functionality as SENSE1. Monitors channel 2 load current through RSENSE2 placed in the supply path between VCC2 and SENSE2. To disable the current limit and circuit breaker function for (See Datasheet)", 15 VCC2 (power) "Channel 2 Positive Supply Input. VCC2 can range from 1V to 13.5V for normal operation but it must be =<VCC1. An undervoltage lockout circuit disables both channels whenever the voltage at VCC2 is less than 0.8V", 16 ON2 (in) "Channel 2 On Input. GATE2 is pulled to ground by a 100uA current source when VON2 < 0.821V. When VON2 > 0.851V, GATE2 ramps up after an initial timing cycle."

## LTC4222CG#PBF
designator U?
Dual Hot Swap Controller with I2C Compatible Monitoring, 2.9 to 29 V Vin, 36-pin SOP (G-36), 0 to 70 degC, Pb-Free; Manufacturer: Linear Technology; PartNumber: LTC4222CG#PBF; Active Limiting: yes; ADC: 10-bit; Circuit Breaker Accuracy(%): 5; Circuit Breaker Threshold: 50 mV; Circuit Breakers(#): 2; Extended Temp: C, I; DatasheetVersion: Rev. B; PackageReference: G-36; PackageDescription: 36-Pin Plastic SSOP, Body 12.8 x 5.3 mm, Pitch 0.65 mm; Supplier 1: Digi-Key; Supplier Part Number 1: LTC4222CG#PBF-ND; Supplier 2: Newark; Supplier Part Number 2: 13P4660; Fast Comparator: yes; Fault: yes; Foldback: yes; Power Good: yes; Reset: yes; RoHS: TRUE; Vin Range: 2.9 to 29 V; Mounting Technology: Surface Mount; ComponentLink1Description: Manufacturer URL; ComponentLink1URL: http://www.linear.com/; ComponentLink2Description: Datasheet; ComponentLink2URL: http://cds.linear.com/docs/en/datasheet/4222fb.pdf; ComponentLink3Description: Package Specification; ComponentLink3URL: http://cds.linear.com/docs/en/packaging/SSOP_36_05-08-1640.pdf
footprint LT-G-36_N (SOP, 36-Leads, Body 13.1x5.6mm, Pitch 0.65mm, IPC Medium Density)
footprint LT-G-36_L (SOP, 36-Leads, Body 13.1x5.6mm, Pitch 0.65mm, IPC High Density)
footprint LT-G-36_M (SOP, 36-Leads, Body 13.1x5.6mm, Pitch 0.65mm, IPC Low Density)
pins: 1 SENSE1- (in) "SENSE1-, SENSE2-: Negative Current Sense Input. Connect this pin to the output of the current sense resistor. The current limit circuit controls the corresponding GATE pin voltage to limit the sense voltage between the (See Datasheet)", 2 SENSE1+ (in) "SENSE1+, SENSE2+: (SSOP Package) Positive Current Sense Input. Connect this pin to the input of the current sense resistor. It must be connected to the same trace as VDDn. Internally tied to VDDn in the QFN package.", 3 VDD1 (power) "VDD1, VDD2: Supply Voltage Input and Positive Current Sense Input. This pin has an undervoltage lockout threshold of 2.43V. In the QFN package this pin is also the positive current sense input.", 4 UV1 (in) "UV1, UV2: Undervoltage Comparator Input. Connect this pin to an external resistive divider from VDD. If the voltage at this pin falls below 1.145V, an undervoltage fault is detected and the GATE turns off. Pulling this pin (See Datasheet)", 5 OV1 (in) "OV1, OV2: Overvoltage Comparator Input. Connect this pin to an external resistive divider from VDD. If the voltage at this pin rises above 1.235V, an overvoltage fault is detected and the GATE turns off. Tie to GND if unused.", 6 SS (in) "SS: Soft-Start Input. Sets the inrush current slew rate at start-up. Connect a 68nF capacitor to provide 5mV/ms as the slew rate for the sense voltage in start-up. This corresponds to 1A/ms with a 5mohm sense resistor. Note (See Datasheet)", 7 CONFIG (in) "CONFIG: Configuration Input. Configures the part to control the two channels together or independently. When CONFIG is tied to GND both channels start up at the same time. A fault, E\N\ or ON turn-off command on either (See Datasheet)", 8 INTVCC (power) "INTVCC: Low Voltage Supply Decoupling Output. Connect a 0.1uF capacitor from this pin to ground.", 9 GND (power) "GND: Device Ground.", 10 ADR0 (in) "ADR0, ADR1, ADR2: Serial Bus Address Inputs. Tying these pins to ground, open, or INTVCC configures one of 27 possible addresses. See Table 1 in Applications Information.", 11 ADR1 (in) "ADR0, ADR1, ADR2: Serial Bus Address Inputs. Tying these pins to ground, open, or INTVCC configures one of 27 possible addresses. See Table 1 in Applications Information.", 12 ADR2 (in) "ADR0, ADR1, ADR2: Serial Bus Address Inputs. Tying these pins to ground, open, or INTVCC configures one of 27 possible addresses. See Table 1 in Applications Information.", 13 TIMER (in) "TIMER: Start-Up Timer Input. Connect a capacitor between this pin and ground to set a 12.3ms/uF duration for start-up, after which an overcurrent fault is logged if the inrush is still current limited. The duration of the (See Datasheet)", 14 OV2 (in) "OV1, OV2: Overvoltage Comparator Input. Connect this pin to an external resistive divider from VDD. If the voltage at this pin rises above 1.235V, an overvoltage fault is detected and the GATE turns off. Tie to GND if unused.", 15 UV2 (in) "UV1, UV2: Undervoltage Comparator Input. Connect this pin to an external resistive divider from VDD. If the voltage at this pin falls below 1.145V, an undervoltage fault is detected and the GATE turns off. Pulling this pin (See Datasheet)", 16 VDD2 (power) "VDD1, VDD2: Supply Voltage Input and Positive Current Sense Input. This pin has an undervoltage lockout threshold of 2.43V. In the QFN package this pin is also the positive current sense input.", 17 SENSE2+ (in) "SENSE1+, SENSE2+: (SSOP Package) Positive Current Sense Input. Connect this pin to the input of the current sense resistor. It must be connected to the same trace as VDDn. Internally tied to VDDn in the QFN package.", 18 SENSE2- (in) "SENSE1-, SENSE2-: Negative Current Sense Input. Connect this pin to the output of the current sense resistor. The current limit circuit controls the corresponding GATE pin voltage to limit the sense voltage between the (See Datasheet)", 19 GATE2 (out) "GATE1, GATE2: Gate Drive for External N-Channel MOSFET. An internal 12uA current source charges the gate of the MOSFET. No compensation capacitor is required on the GATE pin, but a resistor and capacitor network from this (See Datasheet)", 20 SOURCE2 (in) "SOURCE1, SOURCE2: N-Channel MOSFET Source and ADC Input. Connect this pin to the source of the external N-channel MOSFET switch for gate drive return. This pin also serves as the ADC input to monitor output voltage. The pin (See Datasheet)", 21 FB2 (in) "FB1, FB2: Foldback Current Limit and Power-Good Input. A resistive divider from the output is tied to this pin. When the voltage at this pin drops below 1.235V, power is not considered good. The power bad condition may (See Datasheet)", 22 GPIO2 (io) "GPIO1, GPIO2: General Purpose Input/Output. Open-drain logic output or logic input. Defaults to an output set to pull low to indicate power is not good. Configure according to Table 3.", 23 ~{EN2} (in) "E\N\1\, E\N\2\: Enable Input. Ground this pin to indicate a board is present and enable the N-channel MOSFET to turn-on. When this pin is high, the MOSFET is not allowed to turn on. An internal 10uA current source pulls up (See Datasheet)", 24 ADIN2 (in) "ADIN: ADC Input. A voltage between 0 and 1.28V applied to this pin is measured by the on-board ADC. Tie to ground if unused.", 25 SDAO (oc) "SDAO: (SSOP Package) Serial Bus Data Output. Opendrain output for sending data back to the master controller or acknowledging a write operation. Normally tied to SDAI to form the SDA line. An external pull-up resistor or (See Datasheet)", 26 SDAI (in) "SDAI: (SSOP Package) Serial Bus Data Input. A high impedance input for shifting in address, command or data bits. Normally tied to SDAO to form the SDA line. Internally tied to SDAO in QFN package.", 27 SCL (in) "SCL: Serial Bus Clock Input. Data at the SDA pin is shifted in or out on rising edges of SCL. This is a high impedance pin that is generally driven by an open-collector output from a master controller. An external pull-up (See Datasheet)", 28 ~{ALERT} (oc) "A\L\E\R\T\: Fault Alert Output. Open-drain logic output that is pulled to ground when a fault occurs to alert the host controller. A fault alert is enabled by setting the corresponding bit in the A\L\E\R\T\ register as shown (See Datasheet)", 29 ON2 (in) "ON1, ON2: (SSOP Package) On Control Inputs. A rising edge turns on the external N-channel FET and a falling edge turns it off. This pin also configures the state of the FET ON register bit (and hence the external FET) at (See Datasheet)", 30 ON1 (in) "ON1, ON2: (SSOP Package) On Control Inputs. A rising edge turns on the external N-channel FET and a falling edge turns it off. This pin also configures the state of the FET ON register bit (and hence the external FET) at (See Datasheet)", 31 ADIN1 (in) "ADIN: ADC Input. A voltage between 0 and 1.28V applied to this pin is measured by the on-board ADC. Tie to ground if unused.", 32 ~{EN1} (in) "E\N\1\, E\N\2\: Enable Input. Ground this pin to indicate a board is present and enable the N-channel MOSFET to turn-on. When this pin is high, the MOSFET is not allowed to turn on. An internal 10uA current source pulls up (See Datasheet)", 33 GPIO1 (io) "GPIO1, GPIO2: General Purpose Input/Output. Open-drain logic output or logic input. Defaults to an output set to pull low to indicate power is not good. Configure according to Table 3.", 34 FB1 (in) "FB1, FB2: Foldback Current Limit and Power-Good Input. A resistive divider from the output is tied to this pin. When the voltage at this pin drops below 1.235V, power is not considered good. The power bad condition may (See Datasheet)", 35 SOURCE1 (in) "SOURCE1, SOURCE2: N-Channel MOSFET Source and ADC Input. Connect this pin to the source of the external N-channel MOSFET switch for gate drive return. This pin also serves as the ADC input to monitor output voltage. The pin (See Datasheet)", 36 GATE1 (out) "GATE1, GATE2: Gate Drive for External N-Channel MOSFET. An internal 12uA current source charges the gate of the MOSFET. No compensation capacitor is required on the GATE pin, but a resistor and capacitor network from this (See Datasheet)"